# Altium schematic symbol library ESH227M050AH1AA.SchLib: 1 symbol
Pins are listed as number, name and electrical type; pins without a type are passive.

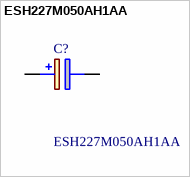
[diagram p0: symbol ESH227M050AH1AA]

## ESH227M050AH1AA
designator C?
Kemet 220uF Electrolytic Aluminium Electrolytic Capacitor 50V dc, Through Hole - ESH227M050AH1AA; Geometry.Height: 13.5mm; Mouser Part Number: 80-ESH227M050AH1AA; Mouser Price/Stock: https://www.mouser.co.uk/ProductDetail/KEMET/ESH227M050AH1AA?qs=w9hhVRgtvfmnb2YOvt619g%3D%3D; Manufacturer_Name: KEMET; Manufacturer_Part_Number: ESH227M050AH1AA; Datasheet Link: https://componentsearchengine.com/Datasheets/1/ESH227M050AH1AA.pdf
footprint CAPPRD500W60D1000H1350
pins: 1 +, 2 -